# EAGLE library part DF12B-50DS-0.5V (library Sala-Eng-Hirose)
Hirose DFB-50DS-0.5V
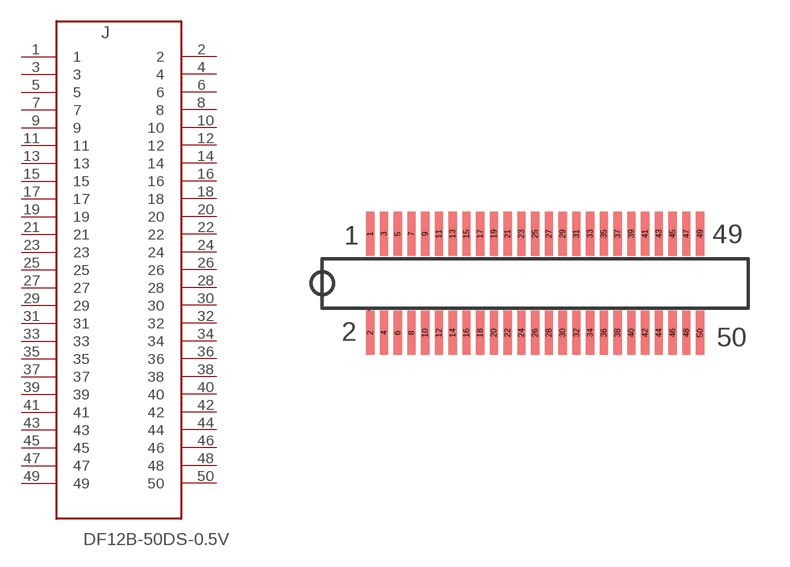
[diagram p6: symbol with the pads of DF12B-50DS-0.5V; footprint DF12B-50DS-0.5V]

Designator prefix J

## DF12B-50DS-0.5V (PART-NUM: 99-001)  [DF12B-50DS-0.5V]
1  1
2  2
3  3
4  4
5  5
6  6
7  7
8  8
9  9
10  10
11  11
12  12
13  13
14  14
15  15
16  16
17  17
18  18
19  19
20  20
21  21
22  22
23  23
24  24
25  25
26  26
27  27
28  28
29  29
30  30
31  31
32  32
33  33
34  34
35  35
36  36
37  37
38  38
39  39
40  40
41  41
42  42
43  43
44  44
45  45
46  46
47  47
48  48
49  49
50  50

## Footprint DF12B-50DS-0.5V (pad centres in mm)
Hirose DF12B (3.0)-50DS-0.5V
smd 0.3 x 1.6: 1 0,0; 2 0,-3.6; 3 0.5,0; 4 0.5,-3.6; 5 1,0; 6 1,-3.6; 7 1.5,0; 8 1.5,-3.6; 9 2,0; 10 2,-3.6; 11 2.5,0; 12 2.5,-3.6; 13 3,0; 14 3,-3.6; 15 3.5,0; 16 3.5,-3.6; 17 4,0; 18 4,-3.6; 19 4.5,0; 20 4.5,-3.6; 21 5,0; 22 5,-3.6; 23 5.5,0; 24 5.5,-3.6; 25 6,0; 26 6,-3.6; 27 6.5,0; 28 6.5,-3.6; 29 7,0; 30 7,-3.6; 31 7.5,0; 32 7.5,-3.6; 33 8,0; 34 8,-3.6; 35 8.5,0; 36 8.5,-3.6; 37 9,0; 38 9,-3.6; 39 9.5,0; 40 9.5,-3.6; 41 10,0; 42 10,-3.6; 43 10.5,0; 44 10.5,-3.6; 45 11,0; 46 11,-3.6; 47 11.5,0; 48 11.5,-3.6; 49 12,0; 50 12,-3.6